# Altium footprint library MC_1216.1001.PcbLib: 1 footprints
Each footprint in its own frame and in the unit in brackets; x right, y up, seen from the top. Pads: shape width x height; smd on the part's side, far side on the other; paste and mask are expansions set on the pad; w line width, h text height; cw(c..) or ccw(c..) is an arc to the next point about the centre after c.
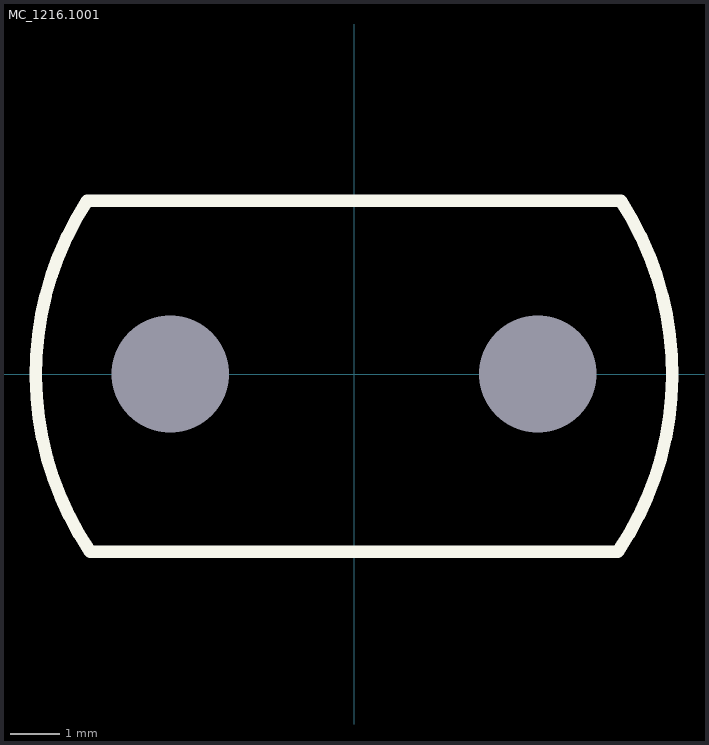
[diagram p0: the footprint, top view; thin cyan lines are the x and y axes]

## MC_1216.1001 [mm] "Flexible LED light guide"
pads (2):
  round 0 hole 2.4 unplated: 0(-3.75,0) 0(3.75,0)
Top Overlay:
  lines w0.254: -5.454,3.535 ccw(c0,0) -5.392,-3.629 5.392,-3.629 ccw(c0,0) 5.454,3.535 -5.454,3.535